# Altium footprint library 171977-0004.PcbLib: 1 footprints
Each footprint in its own frame and in the unit in brackets; x right, y up, seen from the top. Pads: shape width x height; smd on the part's side, far side on the other; paste and mask are expansions set on the pad; w line width, h text height; cw(c..) or ccw(c..) is an arc to the next point about the centre after c.
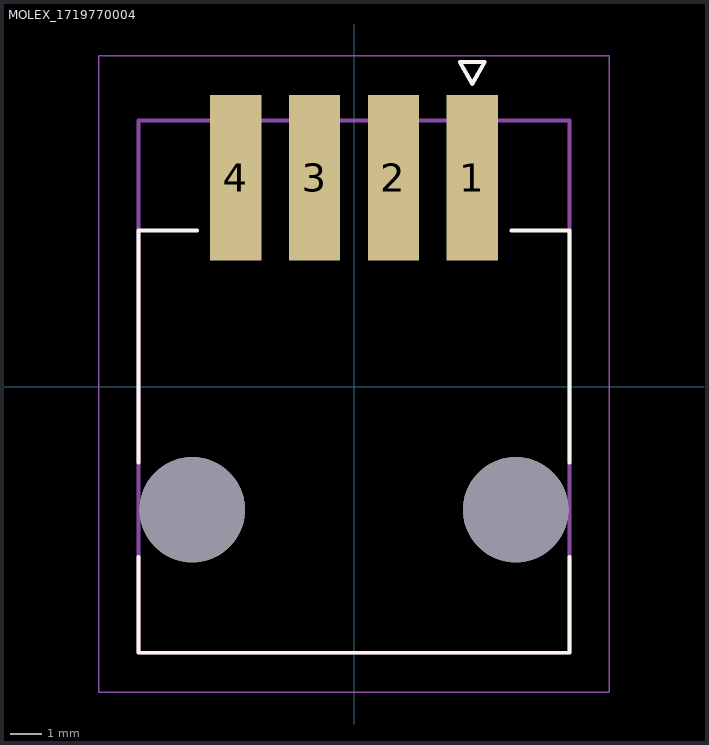
[diagram p0: the footprint, top view; thin cyan lines are the x and y axes]

## MOLEX_1719770004 [mm]
pads (6):
  rect 1.65x5.33 smd mask+0.076: 1(3.81,6.725) 2(1.27,6.725) 3(-1.27,6.725) 4(-3.81,6.725)
  round 3.4 hole 3.4 unplated mask+0.076: ""(-5.21,-3.965) ""(5.21,-3.965)
Top Overlay:
  lines w0.127: -6.95,-5.485 -6.95,-8.575 6.95,-8.575 6.95,-5.485 ; -6.95,-2.445 -6.95,5.025 -5.05,5.025 ; 5.08,5.025 6.95,5.025 6.95,-2.445 ; 3.41,10.457 3.81,9.757 4.21,10.457 3.41,10.457
Mechanical 13:
  lines w0.127: -6.95,-8.575 -6.95,8.575 6.95,8.575 6.95,-8.575 -6.95,-8.575 ; 3.41,10.457 3.81,9.757 4.21,10.457 3.41,10.457
  text "NPTH D3.4 +/-0.05" at -7.62,-13.595 h0.5
Mechanical 15:
  lines w0.05: -8.22,-9.845 8.22,-9.845 8.22,10.66 -8.22,10.66 -8.22,-9.845